# Altium footprint library PcbLib.PcbLib: 285 footprints (part 1 of 18)
Each footprint in its own frame and in the unit in brackets; x right, y up, seen from the top. Pads: shape width x height; smd on the part's side, far side on the other; paste and mask are expansions set on the pad; w line width, h text height; cw(c..) or ccw(c..) is an arc to the next point about the centre after c.
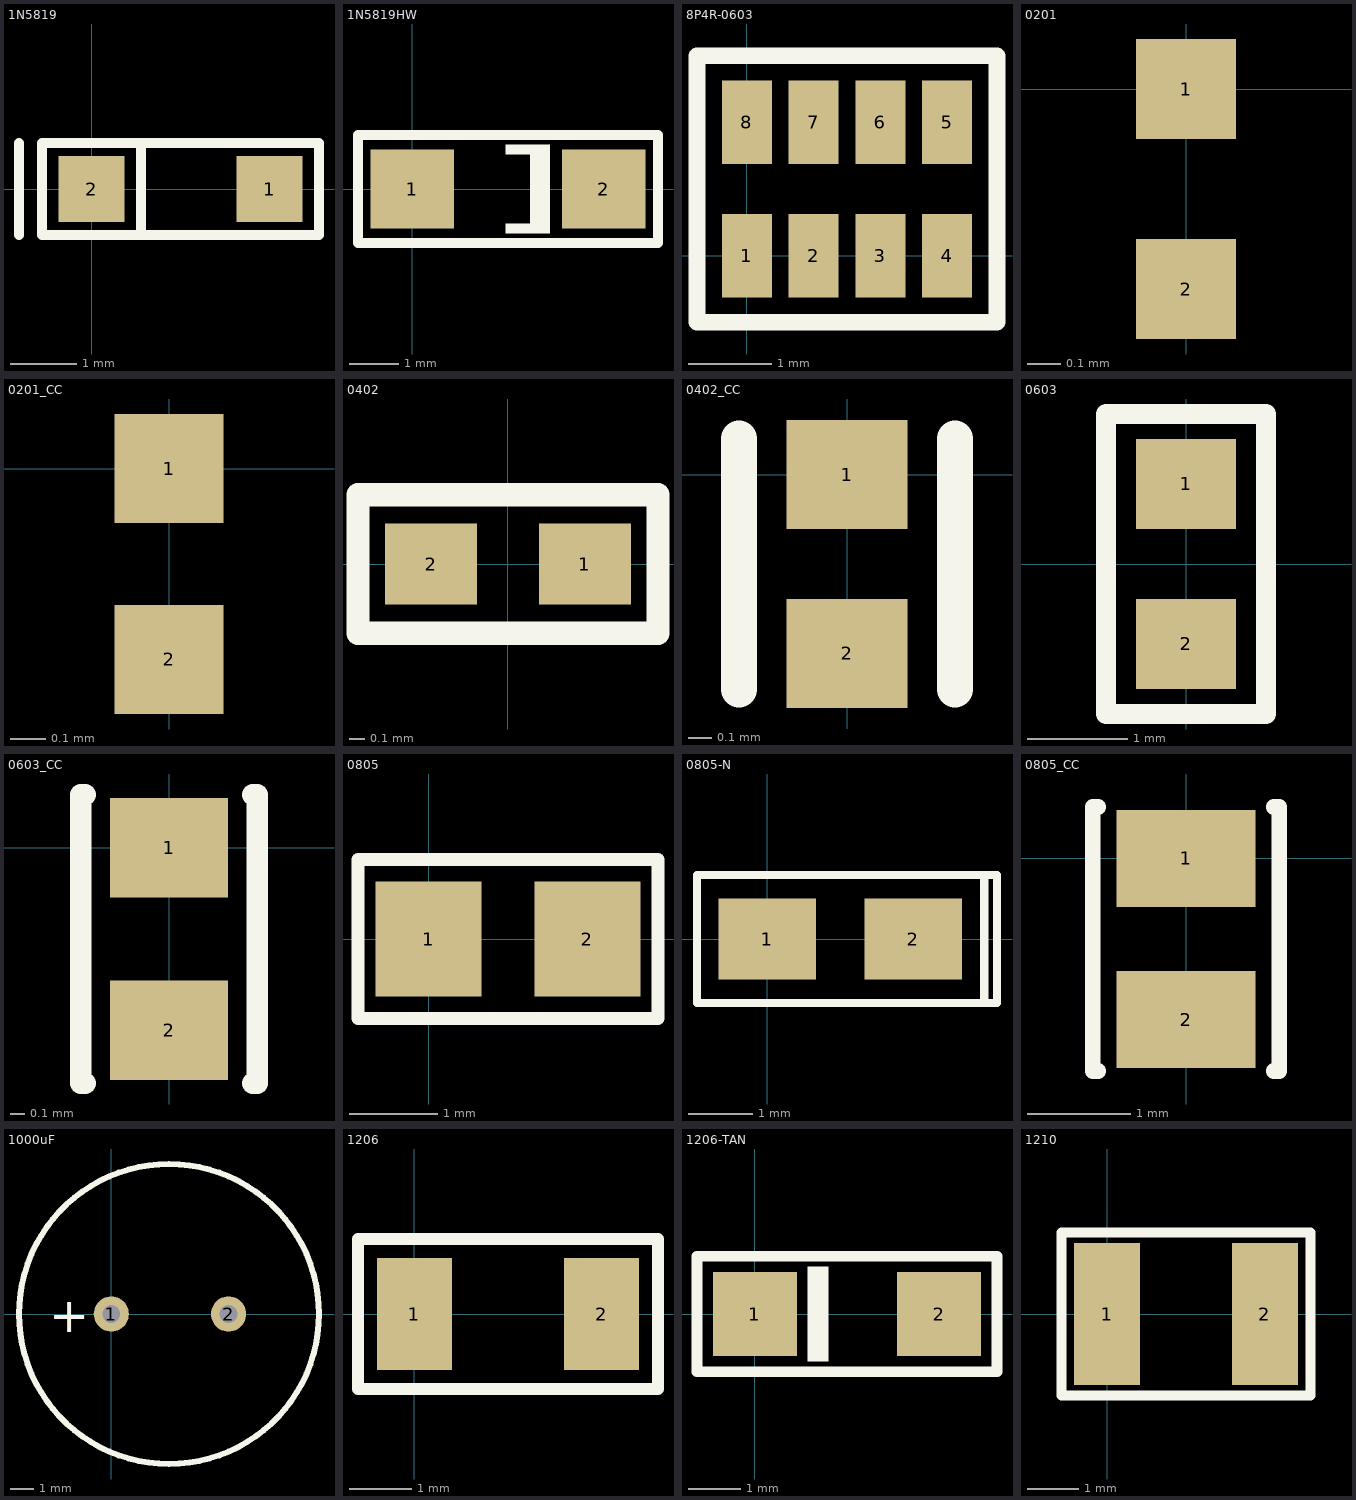
[diagram p0: the footprints below, top view; thin cyan lines are the x and y axes]

## 1N5819 [mm]
pads (2):
  rect 1x1 smd: 1(2.7,0) 2(0,0)
Top Overlay:
  lines w0.15: -1.1,-0.7 -1.1,0.7 ; 0.75,-0.7 0.75,0.7 ; 0.75,-0.7 1.35,-0.7 3.45,-0.7 3.45,0.7 1.35,0.7 0.75,0.7 ; 0.75,-0.7 -0.75,-0.7 -0.75,0.7 0.75,0.7

## 1N5819HW [mm]
pads (2):
  rect 1.7x1.6 smd: 1(0,0) 2(3.9,0)
Top Overlay:
  rectangle: 1.9,-0.9 2.8,-0.7
  rectangle: 1.9,0.7 2.8,0.9
  rectangle: 2.4,-0.9 2.8,0.9
  lines w0.2: -1.1,-1.1 -1.1,1.1 -1,1.1 5,1.1 5,-1.1 -1,-1.1 -1.1,-1.1

## 8P4R-0603 [mm]
pads (8):
  rect 0.6x1 smd: 1(0,0) 2(0.8,0) 3(1.6,0) 4(2.4,0) 5(2.4,1.6) 6(1.6,1.6) 7(0.8,1.6) 8(0,1.6)
Top Overlay:
  lines w0.2: -0.6,-0.8 3,-0.8 3,2.4 -0.6,2.4 -0.6,-0.8

## 0201 [mm]
pads (2):
  rect 0.3x0.3 smd: 1(0,0) 2(0,-0.6)

## 0201_CC [mil]
pads (2):
  rect 12x12 smd: 1(0,0) 2(0,-21.02)

## 0402 [mil] "Chip Capacitor, Body 1.0x0.5mm, IPC High Density"
height 51.18
pads (2):
  rect 24x21 smd: 1(20.13,0) 2(-19.87,0)
Top Overlay:
  lines w6: -38.87,-18 39.13,-18 39.13,18 -38.87,18 -38.87,-18

## 0402_CC [mil]
pads (2):
  rect 20x18 smd: 1(0,0) 2(0,-29.52)
Top Overlay:
  lines w6: -17.83,-35.43 -17.83,5.91 ; 17.83,-35.43 17.83,5.91

## 0603 [mm]
pads (2):
  rect 1x0.9 smd: 1(0,0.8) 2(0,-0.8)
Top Overlay:
  lines w0.2: -0.8,-1.5 -0.6,-1.5 0.8,-1.5 0.8,1.5 -0.8,1.5 -0.8,-1.5

## 0603_CC [mil]
pads (2):
  rect 33x28 smd: 1(0,0) 2(0,-51.18)
Top Overlay:
  lines w6: -23.54,-66.06 -24.72,-66.06 -24.72,14.88 -23.54,14.88 ; 23.54,-66.06 24.72,-66.06 24.72,14.88 23.54,14.88

## 0805 [mm]
pads (2):
  rect 1.2x1.3 smd: 1(0,0) 2(1.8,0)
Top Overlay:
  lines w0.15: -0.8,-0.9 -0.8,0.9 2.6,0.9 2.6,-0.9 -0.8,-0.9

## 0805-N [mil]
pads (2):
  rect 60x50 smd: 1(0,0) 2(90,0)
Top Overlay:
  lines w5: 133.86,-39.37 133.86,39.37 ; 133.86,-39.37 -43.31,-39.37 -43.31,39.37 -39.37,39.37 133.86,39.37 ; 133.86,-39.37 141.73,-39.37 141.73,39.37 133.86,39.37

## 0805_CC [mil]
pads (2):
  rect 53x37 smd: 1(0,0) 2(0,-61.42)
Top Overlay:
  lines w6: -33.5,-81.02 -35.55,-81.02 -35.55,19.6 -33.5,19.6 ; 33.5,-81.02 35.55,-81.02 35.55,19.6 33.5,19.6

## 1000uF [mil]
pads (2):
  round 60 hole 30: 1(0,0) 2(200,0)
Top Overlay:
  circle w10: c98.43,0 r255.91
  text "+" at -106.3,-31.5 h60

## 1206 [mm]
pads (2):
  rect 1.2x1.8 smd: 1(0,0) 2(3,0)
Top Overlay:
  lines w0.2: -0.9,-1.2 -0.9,1.2 3.9,1.2 3.9,-1.2 -0.9,-1.2

## 1206-TAN [mm]
pads (2):
  rect 1.6x1.6 smd: 1(0,0) 2(3.5,0)
Top Overlay:
  rectangle: 1,-0.9 1.4,0.9
  lines w0.2: -1.1,-1.1 -1.1,1.1 0,1.1 4.6,1.1 4.6,-1.1 -1.1,-1.1

## 1210 [mm]
pads (2):
  rect 1.3x2.8 smd: 1(0,0) 2(3.1,0)
Top Overlay:
  lines w0.2: -0.9,-1.6 4,-1.6 4,1.6 -0.9,1.6 -0.9,-1.6